# EAGLE library part JAE-TX13 (library ictt-con_v5)
JAE 1.27mm pitch PCB to FCR Connector TX13
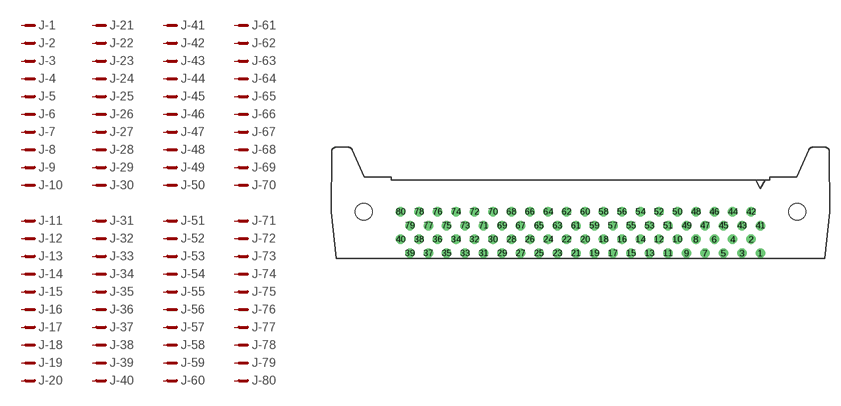
[diagram p1: symbol with the pads of TX13-80P-D2LT-H*E; footprint TX13-80P-D2LT-H*E]

Designator prefix J; gates -1=PIN -2=PIN -3=PIN -4=PIN -5=PIN -6=PIN -7=PIN -8=PIN -9=PIN -10=PIN -11=PIN -12=PIN -13=PIN -14=PIN -15=PIN -16=PIN -17=PIN -18=PIN -19=PIN -20=PIN -21=PIN -22=PIN -23=PIN -24=PIN -25=PIN -26=PIN -27=PIN -28=PIN -29=PIN -30=PIN -31=PIN -32=PIN -33=PIN -34=PIN -35=PIN -36=PIN -37=PIN -38=PIN -39=PIN -40=PIN -41=PIN -42=PIN -43=PIN -44=PIN -45=PIN -46=PIN -47=PIN -48=PIN -49=PIN -50=PIN -51=PIN -52=PIN -53=PIN -54=PIN -55=PIN -56=PIN -57=PIN -58=PIN -59=PIN -60=PIN -61=PIN -62=PIN -63=PIN -64=PIN -65=PIN -66=PIN -67=PIN -68=PIN -69=PIN -70=PIN -71=PIN -72=PIN -73=PIN -74=PIN -75=PIN -76=PIN -77=PIN -78=PIN -79=PIN -80=PIN

## JAE-TX13-80P-D2LT-H*E  [TX13-80P-D2LT-H*E]
1  -1:P$1
2  -2:P$1
3  -3:P$1
4  -4:P$1
5  -5:P$1
6  -6:P$1
7  -7:P$1
8  -8:P$1
9  -9:P$1
10  -10:P$1
11  -11:P$1
12  -12:P$1
13  -13:P$1
14  -14:P$1
15  -15:P$1
16  -16:P$1
17  -17:P$1
18  -18:P$1
19  -19:P$1
20  -20:P$1
21  -21:P$1
22  -22:P$1
23  -23:P$1
24  -24:P$1
25  -25:P$1
26  -26:P$1
27  -27:P$1
28  -28:P$1
29  -29:P$1
30  -30:P$1
31  -31:P$1
32  -32:P$1
33  -33:P$1
34  -34:P$1
35  -35:P$1
36  -36:P$1
37  -37:P$1
38  -38:P$1
39  -39:P$1
40  -40:P$1
41  -41:P$1
42  -42:P$1
43  -43:P$1
44  -44:P$1
45  -45:P$1
46  -46:P$1
47  -47:P$1
48  -48:P$1
49  -49:P$1
50  -50:P$1
51  -51:P$1
52  -52:P$1
53  -53:P$1
54  -54:P$1
55  -55:P$1
56  -56:P$1
57  -57:P$1
58  -58:P$1
59  -59:P$1
60  -60:P$1
61  -61:P$1
62  -62:P$1
63  -63:P$1
64  -64:P$1
65  -65:P$1
66  -66:P$1
67  -67:P$1
68  -68:P$1
69  -69:P$1
70  -70:P$1
71  -71:P$1
72  -72:P$1
73  -73:P$1
74  -74:P$1
75  -75:P$1
76  -76:P$1
77  -77:P$1
78  -78:P$1
79  -79:P$1
80  -80:P$1

## Footprint TX13-80P-D2LT-H*E (pad centres in mm)
drill 0.8 round: 1 24.765,-5.715; 2 23.495,-3.81; 3 22.225,-5.715; 4 20.955,-3.81; 5 19.685,-5.715; 6 18.415,-3.81; 7 17.145,-5.715; 8 15.875,-3.81; 9 14.605,-5.715; 10 13.335,-3.81; 11 12.065,-5.715; 12 10.795,-3.81; 13 9.525,-5.715; 14 8.255,-3.81; 15 6.985,-5.715; 16 5.715,-3.81; 17 4.445,-5.715; 18 3.175,-3.81; 19 1.905,-5.715; 20 0.635,-3.81; 21 -0.635,-5.715; 22 -1.905,-3.81; 23 -3.175,-5.715; 24 -4.445,-3.81; 25 -5.715,-5.715; 26 -6.985,-3.81; 27 -8.255,-5.715; 28 -9.525,-3.81; 29 -10.795,-5.715; 30 -12.065,-3.81; 31 -13.335,-5.715; 32 -14.605,-3.81; 33 -15.875,-5.715; 34 -17.145,-3.81; 35 -18.415,-5.715; 36 -19.685,-3.81; 37 -20.955,-5.715; 38 -22.225,-3.81; 39 -23.495,-5.715; 40 -24.765,-3.81; 41 24.765,-1.905; 42 23.495,0; 43 22.225,-1.905; 44 20.955,0; 45 19.685,-1.905; 46 18.415,0; 47 17.145,-1.905; 48 15.875,0; 49 14.605,-1.905; 50 13.335,0; 51 12.065,-1.905; 52 10.795,0; 53 9.525,-1.905; 54 8.255,0; 55 6.985,-1.905; 56 5.715,0; 57 4.445,-1.905; 58 3.175,0; 59 1.905,-1.905; 60 0.635,0; 61 -0.635,-1.905; 62 -1.905,0; 63 -3.175,-1.905; 64 -4.445,0; 65 -5.715,-1.905; 66 -6.985,0; 67 -8.255,-1.905; 68 -9.525,0; 69 -10.795,-1.905; 70 -12.065,0; 71 -13.335,-1.905; 72 -14.605,0; 73 -15.875,-1.905; 74 -17.145,0; 75 -18.415,-1.905; 76 -19.685,0; 77 -20.955,-1.905; 78 -22.225,0; 79 -23.495,-1.905; 80 -24.765,0
hole 2.3 at 29.845,0
hole 2.3 at -29.845,0